# Altium integrated library WE_WR-WTB_Wire-to-Board Connectors_2.50 mm_rev15a.IntLib: 24 symbols
Pins are listed as number, name and electrical type; pins without a type are passive.

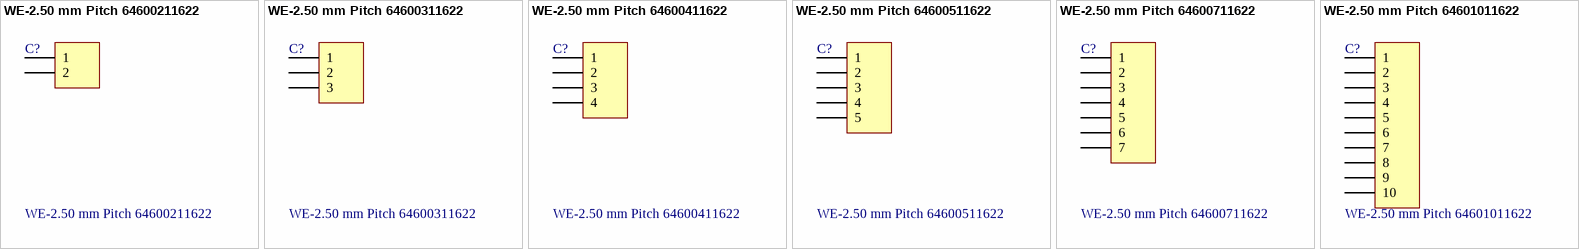
[diagram p0: symbols WE-2.50 mm Pitch 64600211622 to WE-2.50 mm Pitch 64601011622]

## WE-2.50 mm Pitch 64600211622
designator C?
WR-WTB 2.50mm Male Shrouded Header; Manufacturer: Würth Elektronik eiSos GmbH; ComponentLink1 Description: Manufacturer; ComponentLink2 Description: Datasheet; NoPins: 2; Created Date: 27 May 2013; partNo: 64600211622; ComponentLink1URL: http://www.we-online.com; ComponentLink2URL: http://katalog.we-online.de/em/datasheet/6460xx11622.pdf; Created by: Karrer Zheng
footprint 64600211622 (2 pins, straight)
pins: 1, 2

## WE-2.50 mm Pitch 64600311622
designator C?
WR-WTB 2.50mm Male Shrouded Header; Manufacturer: Würth Elektronik eiSos GmbH; ComponentLink1 Description: Manufacturer; ComponentLink2 Description: Datasheet; NoPins: 3; Created Date: 27 May 2013; partNo: 64600311622; ComponentLink1URL: http://www.we-online.com; ComponentLink2URL: http://katalog.we-online.de/em/datasheet/6460xx11622.pdf; Created by: Karrer Zheng
footprint 64600311622 (3 pins, straight)
pins: 1, 2, 3

## WE-2.50 mm Pitch 64600411622
designator C?
WR-WTB 2.50mm Male Shrouded Header; Manufacturer: Würth Elektronik eiSos GmbH; ComponentLink1 Description: Manufacturer; ComponentLink2 Description: Datasheet; NoPins: 4; Created Date: 27 May 2013; partNo: 64600411622; ComponentLink1URL: http://www.we-online.com; ComponentLink2URL: http://katalog.we-online.de/em/datasheet/6460xx11622.pdf; Created by: Karrer Zheng
footprint 64600411622 (4 pins, straight)
pins: 1, 2, 3, 4

## WE-2.50 mm Pitch 64600511622
designator C?
WR-WTB 2.50mm Male Shrouded Header; Manufacturer: Würth Elektronik eiSos GmbH; ComponentLink1 Description: Manufacturer; ComponentLink2 Description: Datasheet; NoPins: 5; Created Date: 27 May 2013; partNo: 64600511622; ComponentLink1URL: http://www.we-online.com; ComponentLink2URL: http://katalog.we-online.de/em/datasheet/6460xx11622.pdf; Created by: Karrer Zheng
footprint 64600511622 (5 pins, straight)
pins: 1, 2, 3, 4, 5

## WE-2.50 mm Pitch 64600711622
designator C?
WR-WTB 2.50mm Male Shrouded Header; Manufacturer: Würth Elektronik eiSos GmbH; ComponentLink1 Description: Manufacturer; ComponentLink2 Description: Datasheet; NoPins: 7; Created Date: 27 May 2013; partNo: 64600711622; ComponentLink1URL: http://www.we-online.com; ComponentLink2URL: http://katalog.we-online.de/em/datasheet/6460xx11622.pdf; Created by: Karrer Zheng
footprint 64600711622 (7 pins, straight)
pins: 1, 2, 3, 4, 5, 6, 7

## WE-2.50 mm Pitch 64601011622
designator C?
WR-WTB 2.50mm Male Shrouded Header; Manufacturer: Würth Elektronik eiSos GmbH; ComponentLink1 Description: Manufacturer; ComponentLink2 Description: Datasheet; NoPins: 10; Created Date: 27 May 2013; partNo: 64601011622; ComponentLink1URL: http://www.we-online.com; ComponentLink2URL: http://katalog.we-online.de/em/datasheet/6460xx11622.pdf; Created by: Karrer Zheng
footprint 64601011622 (10 pins, straight)
pins: 1, 2, 3, 4, 5, 6, 7, 8, 9, 10


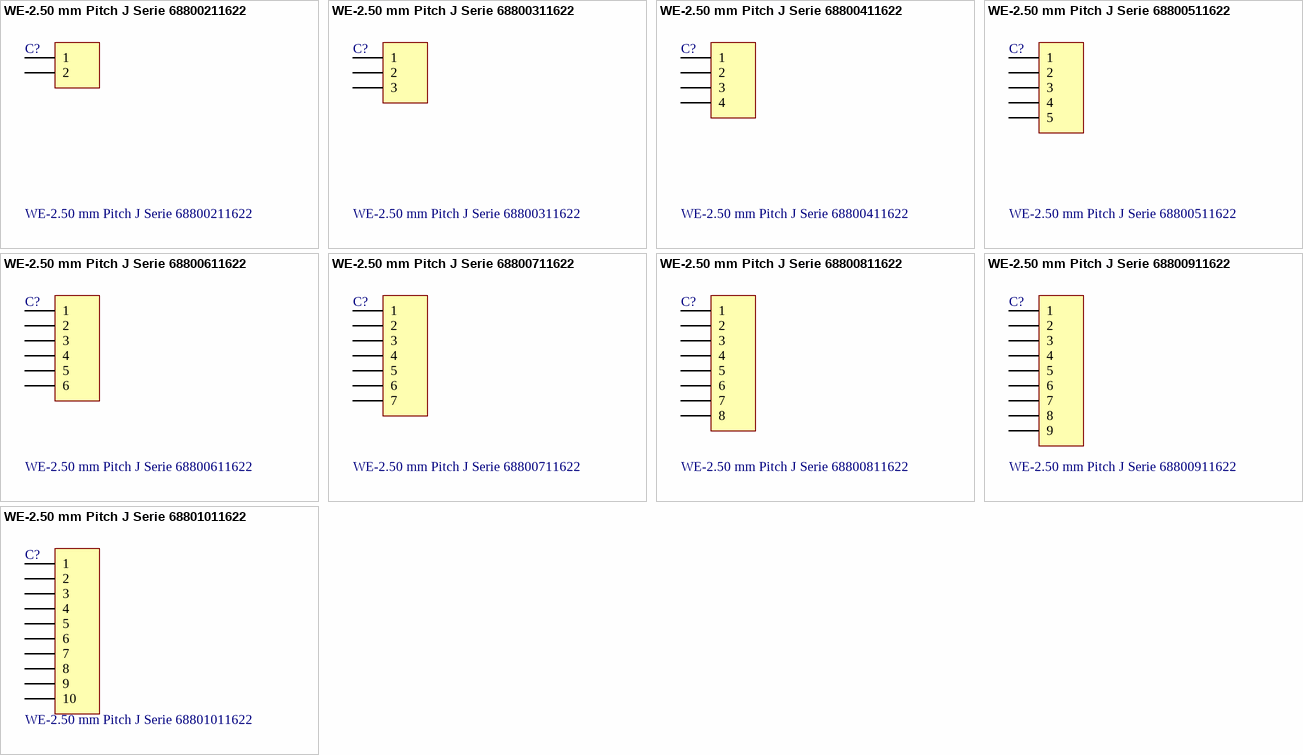
[diagram p1: symbols WE-2.50 mm Pitch J Serie 68800211622 to WE-2.50 mm Pitch J Serie 68801011622]

## WE-2.50 mm Pitch J Serie 68800211622
designator C?
WR-WTB 2.50mm Male Shrouded Header J type; Manufacturer: Würth Elektronik eiSos GmbH; ComponentLink1 Description: Manufacturer; ComponentLink2 Description: Datasheet; NoPins: 2; Created Date: 17 May 2013; partNo: 68800211622; ComponentLink1URL: http://www.we-online.com; ComponentLink2URL: http://katalog.we-online.de/em/datasheet/6880xx11622.pdf; Created by: Karrer Zheng
footprint 68800211622 (2 pins, straight)
pins: 1, 2

## WE-2.50 mm Pitch J Serie 68800311622
designator C?
WR-WTB 2.50mm Male Shrouded Header J type; Manufacturer: Würth Elektronik eiSos GmbH; ComponentLink1 Description: Manufacturer; ComponentLink2 Description: Datasheet; NoPins: 3; Created Date: 17 May 2013; partNo: 68800311622; ComponentLink1URL: http://www.we-online.com; ComponentLink2URL: http://katalog.we-online.de/em/datasheet/6880xx11622.pdf; Created by: Karrer Zheng
footprint 68800311622 (3 pins, straight)
pins: 1, 2, 3

## WE-2.50 mm Pitch J Serie 68800411622
designator C?
WR-WTB 2.50mm Male Shrouded Header J type; Manufacturer: Würth Elektronik eiSos GmbH; ComponentLink1 Description: Manufacturer; ComponentLink2 Description: Datasheet; NoPins: 4; Created Date: 17 May 2013; partNo: 68800411622; ComponentLink1URL: http://www.we-online.com; ComponentLink2URL: http://katalog.we-online.de/em/datasheet/6880xx11622.pdf; Created by: Karrer Zheng
footprint 68800411622 (4 pins, straight)
pins: 1, 2, 3, 4

## WE-2.50 mm Pitch J Serie 68800511622
designator C?
WR-WTB 2.50mm Male Shrouded Header J type; Manufacturer: Würth Elektronik eiSos GmbH; ComponentLink1 Description: Manufacturer; ComponentLink2 Description: Datasheet; NoPins: 5; Created Date: 17 May 2013; partNo: 68800511622; ComponentLink1URL: http://www.we-online.com; ComponentLink2URL: http://katalog.we-online.de/em/datasheet/6880xx11622.pdf; Created by: Karrer Zheng
footprint 68800511622 (5 pins, straight)
pins: 1, 2, 3, 4, 5

## WE-2.50 mm Pitch J Serie 68800611622
designator C?
WR-WTB 2.50mm Male Shrouded Header J type; Manufacturer: Würth Elektronik eiSos GmbH; ComponentLink1 Description: Manufacturer; ComponentLink2 Description: Datasheet; NoPins: 6; Created Date: 17 May 2013; partNo: 68800611622; ComponentLink1URL: http://www.we-online.com; ComponentLink2URL: http://katalog.we-online.de/em/datasheet/6880xx11622.pdf; Created by: Karrer Zheng
footprint 68800611622 (6 pins, straight)
pins: 1, 2, 3, 4, 5, 6

## WE-2.50 mm Pitch J Serie 68800711622
designator C?
WR-WTB 2.50mm Male Shrouded Header J type; Manufacturer: Würth Elektronik eiSos GmbH; ComponentLink1 Description: Manufacturer; ComponentLink2 Description: Datasheet; NoPins: 7; Created Date: 17 May 2013; partNo: 68800711622; ComponentLink1URL: http://www.we-online.com; ComponentLink2URL: http://katalog.we-online.de/em/datasheet/6880xx11622.pdf; Created by: Karrer Zheng
footprint 68800711622 (7 pins, straight)
pins: 1, 2, 3, 4, 5, 6, 7

## WE-2.50 mm Pitch J Serie 68800811622
designator C?
WR-WTB 2.50mm Male Shrouded Header J type; Manufacturer: Würth Elektronik eiSos GmbH; ComponentLink1 Description: Manufacturer; ComponentLink2 Description: Datasheet; NoPins: 8; Created Date: 17 May 2013; partNo: 68800811622; ComponentLink1URL: http://www.we-online.com; ComponentLink2URL: http://katalog.we-online.de/em/datasheet/6880xx11622.pdf; Created by: Karrer Zheng
footprint 68800811622 (8 pins, straight)
pins: 1, 2, 3, 4, 5, 6, 7, 8

## WE-2.50 mm Pitch J Serie 68800911622
designator C?
WR-WTB 2.50mm Male Shrouded Header J type; Manufacturer: Würth Elektronik eiSos GmbH; ComponentLink1 Description: Manufacturer; ComponentLink2 Description: Datasheet; NoPins: 9; Created Date: 17 May 2013; partNo: 68800911622; ComponentLink1URL: http://www.we-online.com; ComponentLink2URL: http://katalog.we-online.de/em/datasheet/6880xx11622.pdf; Created by: Karrer Zheng
footprint 68800911622 (9 pins, straight)
pins: 1, 2, 3, 4, 5, 6, 7, 8, 9

## WE-2.50 mm Pitch J Serie 68801011622
designator C?
WR-WTB 2.50mm Male Shrouded Header J type; Manufacturer: Würth Elektronik eiSos GmbH; ComponentLink1 Description: Manufacturer; ComponentLink2 Description: Datasheet; NoPins: 10; Created Date: 17 May 2013; partNo: 68801011622; ComponentLink1URL: http://www.we-online.com; ComponentLink2URL: http://katalog.we-online.de/em/datasheet/6880xx11622.pdf; Created by: Karrer Zheng
footprint 68801011622 (10 pins, straight)
pins: 1, 2, 3, 4, 5, 6, 7, 8, 9, 10


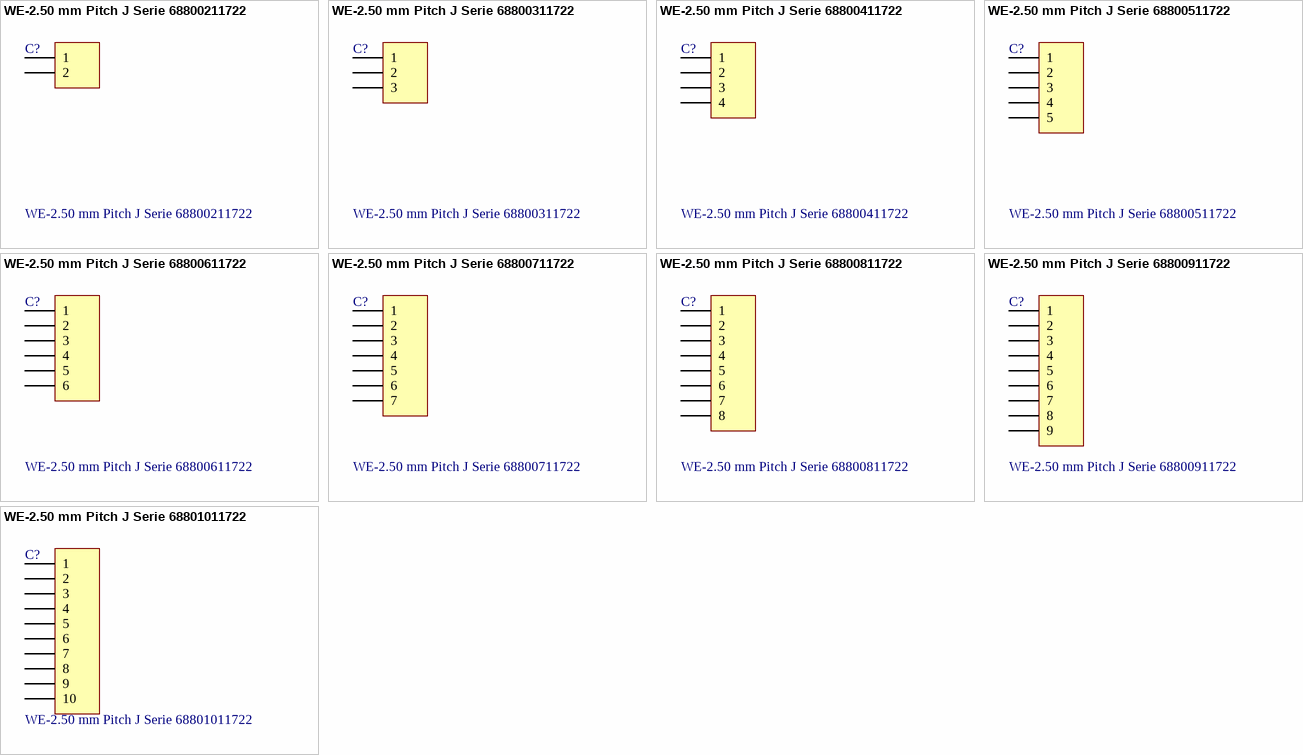
[diagram p2: symbols WE-2.50 mm Pitch J Serie 68800211722 to WE-2.50 mm Pitch J Serie 68801011722]

## WE-2.50 mm Pitch J Serie 68800211722
designator C?
WR-WTB 2.50mm Male Shrouded Header J type; Manufacturer: Würth Elektronik eiSos GmbH; ComponentLink1 Description: Manufacturer; ComponentLink2 Description: Datasheet; NoPins: 2; Created Date: 21 May 2013; partNo: 68800211722; ComponentLink1URL: http://www.we-online.com; ComponentLink2URL: http://katalog.we-online.de/em/datasheet/6880xx11722.pdf; Created by: Karrer Zheng
footprint 68800211722 (2 pins, right angle)
pins: 1, 2

## WE-2.50 mm Pitch J Serie 68800311722
designator C?
WR-WTB 2.50mm Male Shrouded Header J type; Manufacturer: Würth Elektronik eiSos GmbH; ComponentLink1 Description: Manufacturer; ComponentLink2 Description: Datasheet; NoPins: 3; Created Date: 21 May 2013; partNo: 68800311722; ComponentLink1URL: http://www.we-online.com; ComponentLink2URL: http://katalog.we-online.de/em/datasheet/6880xx11722.pdf; Created by: Karrer Zheng
footprint 68800311722 (3 pins, right angle)
pins: 1, 2, 3

## WE-2.50 mm Pitch J Serie 68800411722
designator C?
WR-WTB 2.50mm Male Shrouded Header J type; Manufacturer: Würth Elektronik eiSos GmbH; ComponentLink1 Description: Manufacturer; ComponentLink2 Description: Datasheet; NoPins: 4; Created Date: 21 May 2013; partNo: 68800411722; ComponentLink1URL: http://www.we-online.com; ComponentLink2URL: http://katalog.we-online.de/em/datasheet/6880xx11722.pdf; Created by: Karrer Zheng
footprint 68800411722 (4 pins, right angle)
pins: 1, 2, 3, 4

## WE-2.50 mm Pitch J Serie 68800511722
designator C?
WR-WTB 2.50mm Male Shrouded Header J type; Manufacturer: Würth Elektronik eiSos GmbH; ComponentLink1 Description: Manufacturer; ComponentLink2 Description: Datasheet; NoPins: 5; Created Date: 21 May 2013; partNo: 68800511722; ComponentLink1URL: http://www.we-online.com; ComponentLink2URL: http://katalog.we-online.de/em/datasheet/6880xx11722.pdf; Created by: Karrer Zheng
footprint 68800511722 (5 pins, right angle)
pins: 1, 2, 3, 4, 5

## WE-2.50 mm Pitch J Serie 68800611722
designator C?
WR-WTB 2.50mm Male Shrouded Header J type; Manufacturer: Würth Elektronik eiSos GmbH; ComponentLink1 Description: Manufacturer; ComponentLink2 Description: Datasheet; NoPins: 6; Created Date: 21 May 2013; partNo: 68800611722; ComponentLink1URL: http://www.we-online.com; ComponentLink2URL: http://katalog.we-online.de/em/datasheet/6880xx11722.pdf; Created by: Karrer Zheng
footprint 68800611722 (6 pins, right angle)
pins: 1, 2, 3, 4, 5, 6

## WE-2.50 mm Pitch J Serie 68800711722
designator C?
WR-WTB 2.50mm Male Shrouded Header J type; Manufacturer: Würth Elektronik eiSos GmbH; ComponentLink1 Description: Manufacturer; ComponentLink2 Description: Datasheet; NoPins: 7; Created Date: 21 May 2013; partNo: 68800711722; ComponentLink1URL: http://www.we-online.com; ComponentLink2URL: http://katalog.we-online.de/em/datasheet/6880xx11722.pdf; Created by: Karrer Zheng
footprint 68800711722 (7 pins, right angle)
pins: 1, 2, 3, 4, 5, 6, 7

## WE-2.50 mm Pitch J Serie 68800811722
designator C?
WR-WTB 2.50mm Male Shrouded Header J type; Manufacturer: Würth Elektronik eiSos GmbH; ComponentLink1 Description: Manufacturer; ComponentLink2 Description: Datasheet; NoPins: 8; Created Date: 21 May 2013; partNo: 68800811722; ComponentLink1URL: http://www.we-online.com; ComponentLink2URL: http://katalog.we-online.de/em/datasheet/6880xx11722.pdf; Created by: Karrer Zheng
footprint 68800811722 (8 pins, right angle)
pins: 1, 2, 3, 4, 5, 6, 7, 8

## WE-2.50 mm Pitch J Serie 68800911722
designator C?
WR-WTB 2.50mm Male Shrouded Header J type; Manufacturer: Würth Elektronik eiSos GmbH; ComponentLink1 Description: Manufacturer; ComponentLink2 Description: Datasheet; NoPins: 9; Created Date: 21 May 2013; partNo: 68800911722; ComponentLink1URL: http://www.we-online.com; ComponentLink2URL: http://katalog.we-online.de/em/datasheet/6880xx11722.pdf; Created by: Karrer Zheng
footprint 68800911722 (9 pins, right angle)
pins: 1, 2, 3, 4, 5, 6, 7, 8, 9

## WE-2.50 mm Pitch J Serie 68801011722
designator C?
WR-WTB 2.50mm Male Shrouded Header J type; Manufacturer: Würth Elektronik eiSos GmbH; ComponentLink1 Description: Manufacturer; ComponentLink2 Description: Datasheet; NoPins: 10; Created Date: 21 May 2013; partNo: 68801011722; ComponentLink1URL: http://www.we-online.com; ComponentLink2URL: http://katalog.we-online.de/em/datasheet/6880xx11722.pdf; Created by: Karrer Zheng
footprint 68801011722 (10 pins, right angle)
pins: 1, 2, 3, 4, 5, 6, 7, 8, 9, 10